# EAGLE library part MOLEX2171830001 (library Molex 2171830001 type c)
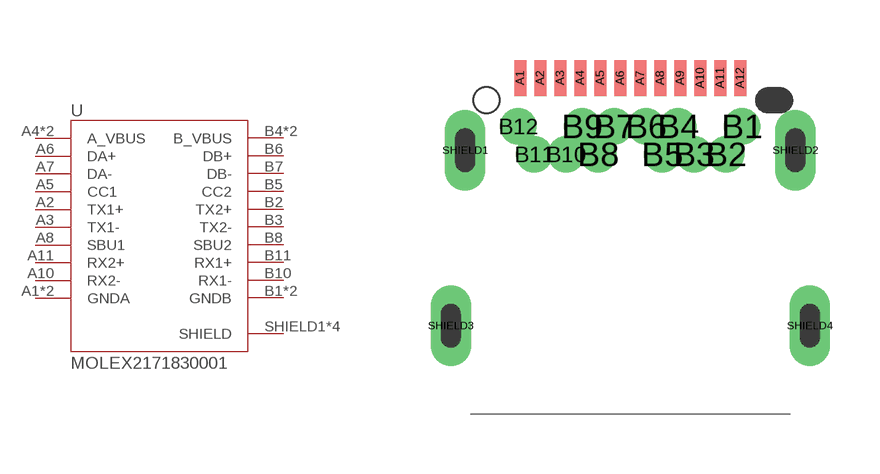
[diagram p0: symbol with the pads of 24P; footprint 24P]

Designator prefix -

## MOLEX2171830001  [24P]
A1  GNDA  pas
A2  TX1+  pas
A3  TX1-  pas
A4  A_VBUS  pas
A5  CC1  pas
A6  DA+  pas
A7  DA-  pas
A8  SBU1  pas
A9  A_VBUS  pas
A10  RX2-  pas
A11  RX2+  pas
A12  GNDA  pas
B1  GNDB  pas
B2  TX2+  pas
B3  TX2-  pas
B4  B_VBUS  pas
B5  CC2  pas
B6  DB+  pas
B7  DB-  pas
B8  SBU2  pas
B9  B_VBUS  pas
B10  RX1-  pas
B11  RX1+  pas
B12  GNDB  pas
SHIELD1  SHIELD  pas
SHIELD2  SHIELD  pas
SHIELD3  SHIELD  pas
SHIELD4  SHIELD  pas

## Footprint 24P (pad centres in mm)
smd 0.3 x 0.9: A1 -2.75,0; A2 -2.25,0; A3 -1.75,0; A4 -1.25,0; A5 -0.75,0; A6 -0.25,0; A7 0.25,0; A8 0.75,0; A9 1.25,0; A10 1.75,0; A11 2.25,0; A12 2.75,0
drill 0.4 pad 0.65: B1 2.8,-1.21; B2 2.4,-1.91; B3 1.6,-1.91; B4 1.2,-1.21; B5 0.8,-1.91; B6 0.4,-1.21; B7 -0.4,-1.21; B8 -0.8,-1.91; B9 -1.2,-1.21; B10 -1.6,-1.91; B11 -2.4,-1.91; B12 -2.8,-1.21
drill 0.5 pad 0.75 long: SHIELD1 -4.13,-1.81; SHIELD2 4.13,-1.81; SHIELD3 -4.49,-6.2; SHIELD4 4.49,-6.2
hole 0.65 at -3.6,-0.56